# Altium schematic symbol library GENERIC_D_TVS_BI.SchLib: 1 symbol
Pins are listed as number, name and electrical type; pins without a type are passive.

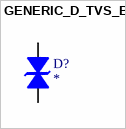
[diagram p0: symbol GENERIC_D_TVS_BI]

## GENERIC_D_TVS_BI
designator D?
pins: 1, 2